# Altium footprint library 30002.PcbLib: 1 footprints
Each footprint in its own frame and in the unit in brackets; x right, y up, seen from the top. Pads: shape width x height; smd on the part's side, far side on the other; paste and mask are expansions set on the pad; w line width, h text height; cw(c..) or ccw(c..) is an arc to the next point about the centre after c.
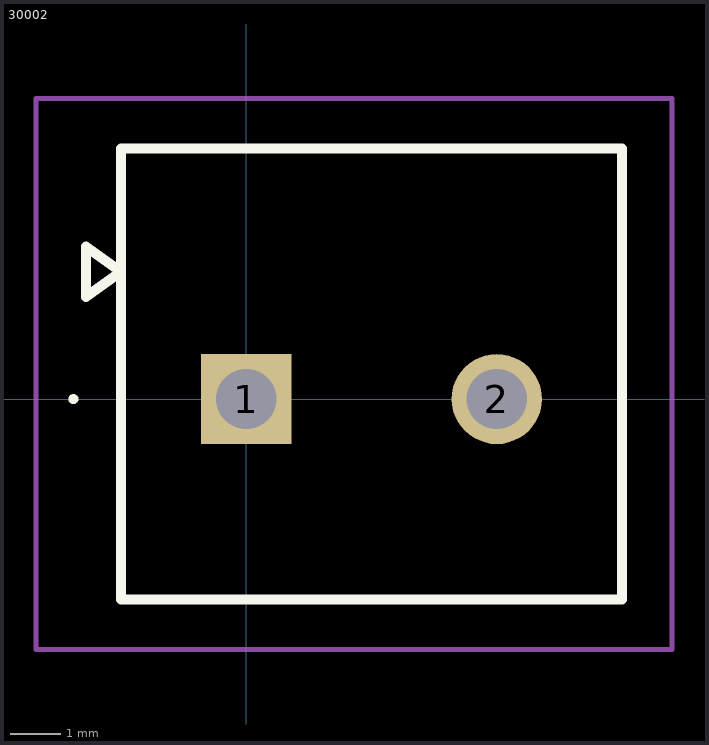
[diagram p0: the footprint, top view; thin cyan lines are the x and y axes]

## 30002 [mm]
pads (2):
  rect 1.8x1.8 hole 1.2: 1(0,0)
  round 1.8 hole 1.2: 2(5,0)
Top Overlay:
  lines w0.1: -3.5,0 cw(c-3.45,0) -3.4,0 ; -3.5,0 -3.5,0 ; -3.5,0 ccw(c-3.45,0) -3.4,0 ; -3.4,0 -3.4,0
  lines w0.2: -3.2,2.04 -3.2,3.04 -2.5,2.54 -3.2,2.04 ; -2.5,-4 7.5,-4 7.5,5 -2.5,5 -2.5,-4
Mechanical 15:
  lines w0.1: -3.2,2.04 -3.2,3.04 -2.5,2.54 -3.2,2.04 ; -2.5,-4 7.5,-4 7.5,5 -2.5,5 -2.5,-4
Mechanical 20:
  lines w0.1: -4.2,-5 8.5,-5 8.5,6 -4.2,6 -4.2,-5